# Altium schematic symbol library Components - 28.08.24 - 16.42.SchLib: 1 symbol
Pins are listed as number, name and electrical type; pins without a type are passive.

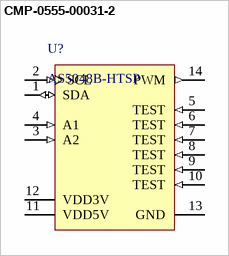
[diagram p0: symbol CMP-0555-00031-2]

## CMP-0555-00031-2
designator U?, comment AS5048B-HTSP
Magnetic Rotary Encoder 14-bit Angular Position Sensor, 3.3 or 5 V, TSSOP-14, Pb-Free, Reel; Manufacturer: AMS; Supply Voltage (V): 3.3 or 5.0; Output: IÂ²C, PWM; PackageDescription: 14-Pin Small Outline Package, 5 x 4.4 mm Body, 0.65 mm Pitch; Mounting Technology: Surface Mount; ComponentLink2URL: http://www.ams.com/eng/content/download/438523/1341157/143016; ComponentLink2Description: Datasheet; PackageReference: TSSOP-14; Features: IÂ²C, PWM, In System Programmable; PackageVersion: Rev. 2.7, 10/2010; Code_JEDEC: MO-153; DatasheetVersion: Rev. 1.3; Resolution: 14-bit; PartNumber: AS5048B-HTSP; ComponentLink1Description: Manufacturer URL; ComponentLink1URL: www.ams.com
footprint AMS-TSSOP-14-5000X4400DE_N (TSOP, 14-Leads, Body 5.00x4.40mm, Pitch 0.65mm, IPC Medium Density)
footprint AMS-TSSOP-14-5000X4400DE_M (TSOP, 14-Leads, Body 5.00x4.40mm, Pitch 0.65mm, IPC Low Density)
footprint AMS-TSSOP-14-5000X4400DE_L (TSOP, 14-Leads, Body 5.00x4.40mm, Pitch 0.65mm, IPC High Density)
pins: 1 SDA (io) "Data pin I2C interface", 2 SCL (in) "I2C clock input", 3 A2 (in) "I2C address selection pin 3", 4 A1 (in) "I2C address selection pin 4", 5 TEST (in) "Test pin, see Note", 6 TEST (in) "Test pin, see Note", 7 TEST (in) "Test pin, see Note", 8 TEST (in) "Test pin, see Note", 9 TEST (in) "Test pin, see Note", 10 TEST (in) "Test pin, see Note", 11 VDD5V (power) "Positive Supply Voltage, 3.0 to 5.5 V", 12 VDD3V (power) "3.3V Regulator output; internally regulated from VDD. Connect to VDD for 3V supply voltage. 10FF capacitor to GND required in 5V operation mode", 13 GND (power) "Negative Supply Voltage (GND)", 14 PWM (out) "Pulse Width Modulation output"